# Altium schematic symbol library kmilo17pet-NSC_Switcher.SchLib: 2226 symbols (part 3 of 59)
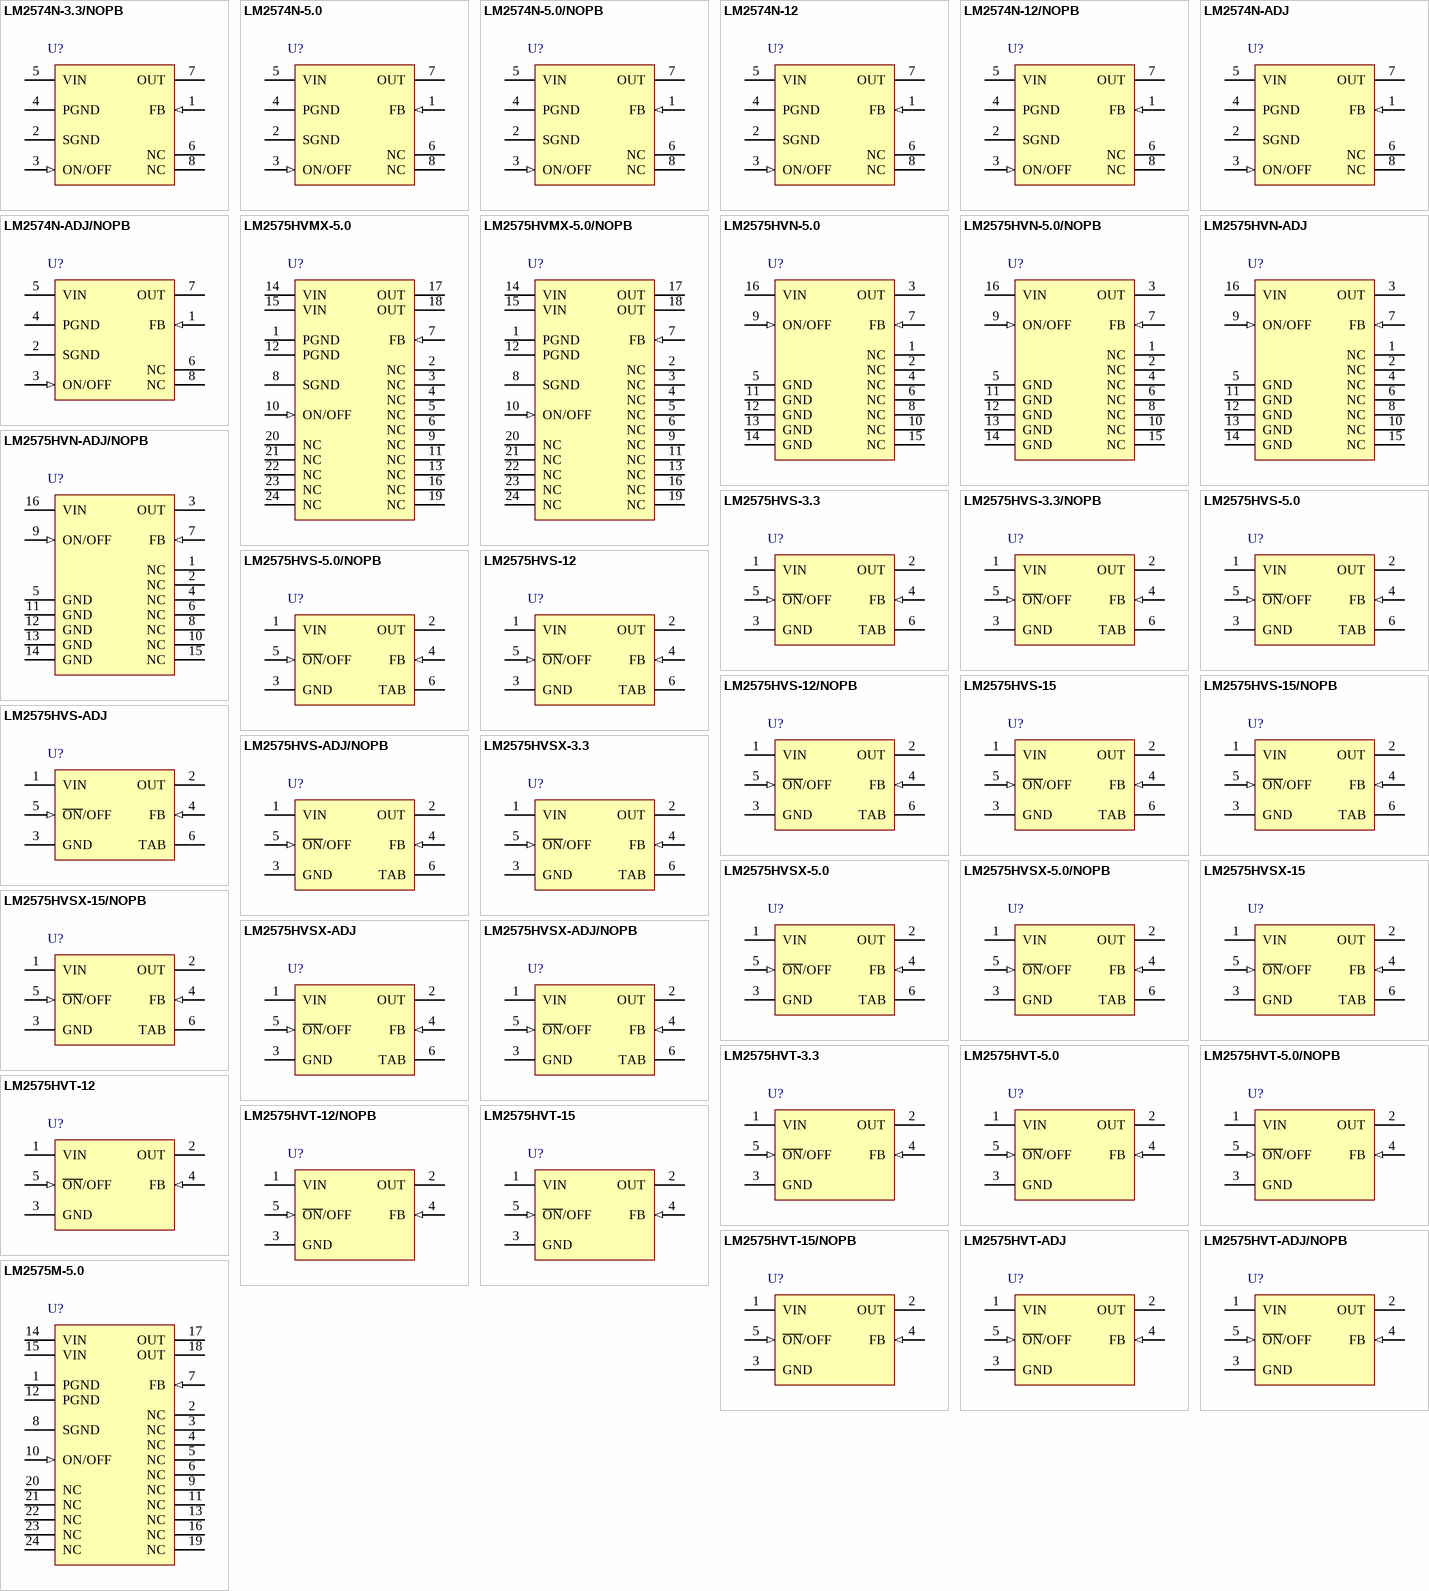
[diagram p71: symbols LM2574N-3.3/NOPB to LM2575M-5.0]

## LM2574N-12
designator U?
SIMPLE SWITCHER® 0.5A Step-Down Voltage Regulator, 8-pin MDIP; PartNumber: LM2574N-12; Manufacturer: National Semiconductor; PackageTopMarking: NSUZXYTTE#*LM2574N*-12 P+; PowerWise: N; High-Reliability: Y; DatasheetVersion: Jun-1999; PackageVersion: revG, May-2006; PackageReference: N08E; PackageDescription: MDIP, .365 x .250 x .130in, 8 Lead, .100in Pitch; RoHS: N; PinCount: 8; CompType: Switcher; Code_JEDEC: MS-001-BA; ComponentLink1Description: Manufacturer URL; ComponentLink1URL: http://www.national.com/; ComponentLink2Description: LM2574 Datasheet; ComponentLink2URL: http://www.national.com/ds/LM/LM2574.pdf; ComponentLink3Description: LM2574 Web Page; ComponentLink3URL: http://www.national.com/pf/LM/LM2574.html; ComponentLink4Description: N08E Package Page; ComponentLink4URL: http://www.national.com/packaging/folders/n08e.html
footprint N08E (DIP, 8-Leads, Row Spacing 7.62mm, Pitch 2.54mm, Body 9.91x6.35mm)
pins: 1 FB (in), 2 SGND (power), 3 ON/OFF (in), 4 PGND (power), 5 VIN (power), 6 NC, 7 OUT (power), 8 NC

## LM2574N-12/NOPB
designator U?
SIMPLE SWITCHER® 0.5A Step-Down Voltage Regulator, 8-pin MDIP, Pb-Free; PartNumber: LM2574N-12/NOPB; Manufacturer: National Semiconductor; PackageTopMarking: NSUZXYTTE#*LM2574N*-12 P+; PowerWise: N; High-Reliability: Y; DatasheetVersion: Jun-1999; PackageVersion: revG, May-2006; PackageReference: N08E; PackageDescription: MDIP, .365 x .250 x .130in, 8 Lead, .100in Pitch; RoHS: Y; PinCount: 8; CompType: Switcher; Code_JEDEC: MS-001-BA; ComponentLink1Description: Manufacturer URL; ComponentLink1URL: http://www.national.com/; ComponentLink2Description: LM2574 Datasheet; ComponentLink2URL: http://www.national.com/ds/LM/LM2574.pdf; ComponentLink3Description: LM2574 Web Page; ComponentLink3URL: http://www.national.com/pf/LM/LM2574.html; ComponentLink4Description: N08E Package Page; ComponentLink4URL: http://www.national.com/packaging/folders/n08e.html
footprint N08E (DIP, 8-Leads, Row Spacing 7.62mm, Pitch 2.54mm, Body 9.91x6.35mm)
pins: 1 FB (in), 2 SGND (power), 3 ON/OFF (in), 4 PGND (power), 5 VIN (power), 6 NC, 7 OUT (power), 8 NC

## LM2574N-ADJ
designator U?
SIMPLE SWITCHER® 0.5A Step-Down Voltage Regulator, 8-pin MDIP; PartNumber: LM2574N-ADJ; Manufacturer: National Semiconductor; PackageTopMarking: NSUZXYTTE#*LM2574N*-ADJ P+; PowerWise: N; High-Reliability: Y; DatasheetVersion: Jun-1999; PackageVersion: revG, May-2006; PackageReference: N08E; PackageDescription: MDIP, .365 x .250 x .130in, 8 Lead, .100in Pitch; RoHS: N; PinCount: 8; CompType: Switcher; Code_JEDEC: MS-001-BA; ComponentLink1Description: Manufacturer URL; ComponentLink1URL: http://www.national.com/; ComponentLink2Description: LM2574 Datasheet; ComponentLink2URL: http://www.national.com/ds/LM/LM2574.pdf; ComponentLink3Description: LM2574 Web Page; ComponentLink3URL: http://www.national.com/pf/LM/LM2574.html; ComponentLink4Description: N08E Package Page; ComponentLink4URL: http://www.national.com/packaging/folders/n08e.html
footprint N08E (DIP, 8-Leads, Row Spacing 7.62mm, Pitch 2.54mm, Body 9.91x6.35mm)
pins: 1 FB (in), 2 SGND (power), 3 ON/OFF (in), 4 PGND (power), 5 VIN (power), 6 NC, 7 OUT (power), 8 NC

## LM2574N-ADJ/NOPB
designator U?
SIMPLE SWITCHER® 0.5A Step-Down Voltage Regulator, 8-pin MDIP, Pb-Free; PartNumber: LM2574N-ADJ/NOPB; Manufacturer: National Semiconductor; PackageTopMarking: NSUZXYTTE#*LM2574N*-ADJ P+; PowerWise: N; High-Reliability: Y; DatasheetVersion: Jun-1999; PackageVersion: revG, May-2006; PackageReference: N08E; PackageDescription: MDIP, .365 x .250 x .130in, 8 Lead, .100in Pitch; RoHS: Y; PinCount: 8; CompType: Switcher; Code_JEDEC: MS-001-BA; ComponentLink1Description: Manufacturer URL; ComponentLink1URL: http://www.national.com/; ComponentLink2Description: LM2574 Datasheet; ComponentLink2URL: http://www.national.com/ds/LM/LM2574.pdf; ComponentLink3Description: LM2574 Web Page; ComponentLink3URL: http://www.national.com/pf/LM/LM2574.html; ComponentLink4Description: N08E Package Page; ComponentLink4URL: http://www.national.com/packaging/folders/n08e.html
footprint N08E (DIP, 8-Leads, Row Spacing 7.62mm, Pitch 2.54mm, Body 9.91x6.35mm)
pins: 1 FB (in), 2 SGND (power), 3 ON/OFF (in), 4 PGND (power), 5 VIN (power), 6 NC, 7 OUT (power), 8 NC

## LM2575HVMX-5.0
designator U?
SIMPLE SWITCHER® 1A Step-Down Voltage Regulator, 24-pin Wide SOIC; PartNumber: LM2575HVMX-5.0; Manufacturer: National Semiconductor; PackageTopMarking: NSUZXYTTE#*LM2575HVM*-5.0 P+; PowerWise: N; High-Reliability: Y; DatasheetVersion: Apr-2007; PackageVersion: revF, Apr-1990; PackageReference: M24B; PackageDescription: Molded Package, S.O., .300in Wide, 24 Lead; RoHS: N; PinCount: 24; CompType: Switcher; ComponentLink1Description: Manufacturer URL; ComponentLink1URL: http://www.national.com/; ComponentLink2Description: LM2575HV Datasheet; ComponentLink2URL: http://www.national.com/ds/LM/LM2575HV.pdf; ComponentLink3Description: LM2575HV Web Page; ComponentLink3URL: http://www.national.com/pf/LM/LM2575HV.html; ComponentLink4Description: M24B Package Page; ComponentLink4URL: http://www.national.com/packaging/folders/m24b.html
footprint M24B_N (SOIC, 24-Leads, Body 15.4x7.5mm, Pitch 1.27mm, IPC Medium Density)
footprint M24B_L (SOIC, 24-Leads, Body 15.4x7.5mm, Pitch 1.27mm, IPC High Density)
footprint M24B_M (SOIC, 24-Leads, Body 15.4x7.5mm, Pitch 1.27mm, IPC Low Density)
pins: 1 PGND (power), 2 NC, 3 NC, 4 NC, 5 NC, 6 NC, 7 FB (in), 8 SGND (power), 9 NC, 10 ON/OFF (in), 11 NC, 12 PGND (power), 13 NC, 14 VIN (power), 15 VIN (power), 16 NC, 17 OUT (power), 18 OUT (power), 19 NC, 20 NC, 21 NC, 22 NC, 23 NC, 24 NC

## LM2575HVMX-5.0/NOPB
designator U?
SIMPLE SWITCHER® 1A Step-Down Voltage Regulator, 24-pin Wide SOIC, Pb-Free; PartNumber: LM2575HVMX-5.0/NOPB; Manufacturer: National Semiconductor; PackageTopMarking: NSUZXYTTE#*LM2575HVM*-5.0 P+; PowerWise: N; High-Reliability: Y; DatasheetVersion: Apr-2007; PackageVersion: revF, Apr-1990; PackageReference: M24B; PackageDescription: Molded Package, S.O., .300in Wide, 24 Lead; RoHS: Y; PinCount: 24; CompType: Switcher; ComponentLink1Description: Manufacturer URL; ComponentLink1URL: http://www.national.com/; ComponentLink2Description: LM2575HV Datasheet; ComponentLink2URL: http://www.national.com/ds/LM/LM2575HV.pdf; ComponentLink3Description: LM2575HV Web Page; ComponentLink3URL: http://www.national.com/pf/LM/LM2575HV.html; ComponentLink4Description: M24B Package Page; ComponentLink4URL: http://www.national.com/packaging/folders/m24b.html
footprint M24B_N (SOIC, 24-Leads, Body 15.4x7.5mm, Pitch 1.27mm, IPC Medium Density)
footprint M24B_L (SOIC, 24-Leads, Body 15.4x7.5mm, Pitch 1.27mm, IPC High Density)
footprint M24B_M (SOIC, 24-Leads, Body 15.4x7.5mm, Pitch 1.27mm, IPC Low Density)
pins: 1 PGND (power), 2 NC, 3 NC, 4 NC, 5 NC, 6 NC, 7 FB (in), 8 SGND (power), 9 NC, 10 ON/OFF (in), 11 NC, 12 PGND (power), 13 NC, 14 VIN (power), 15 VIN (power), 16 NC, 17 OUT (power), 18 OUT (power), 19 NC, 20 NC, 21 NC, 22 NC, 23 NC, 24 NC

## LM2575HVN-5.0
designator U?
SIMPLE SWITCHER® 1A Step-Down Voltage Regulator, 16-pin MDIP; PartNumber: LM2575HVN-5.0; Manufacturer: National Semiconductor; PackageTopMarking: NSUZXYYTTE#*LM2575HVN*-5.0 P+; PowerWise: N; High-Reliability: Y; DatasheetVersion: Apr-2007; PackageVersion: revB, Feb-1989; PackageReference: N16G; PackageDescription: Molded Dip (N), 16 Lead, 15 Mil Power Package; RoHS: N; PinCount: 16; CompType: Switcher; ComponentLink1Description: Manufacturer URL; ComponentLink1URL: http://www.national.com/; ComponentLink2Description: LM2575HV Datasheet; ComponentLink2URL: http://www.national.com/ds/LM/LM2575HV.pdf; ComponentLink3Description: LM2575HV Web Page; ComponentLink3URL: http://www.national.com/pf/LM/LM2575HV.html; ComponentLink4Description: N16G Package Page; ComponentLink4URL: http://www.national.com/packaging/folders/n16g.html
footprint N16G (DIP, 16-Leads, Row Spacing 7.62mm, Pitch 2.54mm, Body 21.76x6.35mm)
pins: 1 NC, 2 NC, 3 OUT (power), 4 NC, 5 GND (power), 6 NC, 7 FB (in), 8 NC, 9 ON/OFF (in), 10 NC, 11 GND (power), 12 GND (power), 13 GND (power), 14 GND (power), 15 NC, 16 VIN (power)

## LM2575HVN-5.0/NOPB
designator U?
SIMPLE SWITCHER® 1A Step-Down Voltage Regulator, 16-pin MDIP, Pb-Free; PartNumber: LM2575HVN-5.0/NOPB; Manufacturer: National Semiconductor; PackageTopMarking: NSUZXYYTTE#*LM2575HVN*-5.0 P+; PowerWise: N; High-Reliability: Y; DatasheetVersion: Apr-2007; PackageVersion: revB, Feb-1989; PackageReference: N16G; PackageDescription: Molded Dip (N), 16 Lead, 15 Mil Power Package; RoHS: Y; PinCount: 16; CompType: Switcher; ComponentLink1Description: Manufacturer URL; ComponentLink1URL: http://www.national.com/; ComponentLink2Description: LM2575HV Datasheet; ComponentLink2URL: http://www.national.com/ds/LM/LM2575HV.pdf; ComponentLink3Description: LM2575HV Web Page; ComponentLink3URL: http://www.national.com/pf/LM/LM2575HV.html; ComponentLink4Description: N16G Package Page; ComponentLink4URL: http://www.national.com/packaging/folders/n16g.html
footprint N16G (DIP, 16-Leads, Row Spacing 7.62mm, Pitch 2.54mm, Body 21.76x6.35mm)
pins: 1 NC, 2 NC, 3 OUT (power), 4 NC, 5 GND (power), 6 NC, 7 FB (in), 8 NC, 9 ON/OFF (in), 10 NC, 11 GND (power), 12 GND (power), 13 GND (power), 14 GND (power), 15 NC, 16 VIN (power)

## LM2575HVN-ADJ
designator U?
SIMPLE SWITCHER® 1A Step-Down Voltage Regulator, 16-pin MDIP; PartNumber: LM2575HVN-ADJ; Manufacturer: National Semiconductor; PackageTopMarking: NSUZXYYTTE#*LM2575HVN*-ADJ P+; PowerWise: N; High-Reliability: Y; DatasheetVersion: Apr-2007; PackageVersion: revB, Feb-1989; PackageReference: N16G; PackageDescription: Molded Dip (N), 16 Lead, 15 Mil Power Package; RoHS: N; PinCount: 16; CompType: Switcher; ComponentLink1Description: Manufacturer URL; ComponentLink1URL: http://www.national.com/; ComponentLink2Description: LM2575HV Datasheet; ComponentLink2URL: http://www.national.com/ds/LM/LM2575HV.pdf; ComponentLink3Description: LM2575HV Web Page; ComponentLink3URL: http://www.national.com/pf/LM/LM2575HV.html; ComponentLink4Description: N16G Package Page; ComponentLink4URL: http://www.national.com/packaging/folders/n16g.html
footprint N16G (DIP, 16-Leads, Row Spacing 7.62mm, Pitch 2.54mm, Body 21.76x6.35mm)
pins: 1 NC, 2 NC, 3 OUT (power), 4 NC, 5 GND (power), 6 NC, 7 FB (in), 8 NC, 9 ON/OFF (in), 10 NC, 11 GND (power), 12 GND (power), 13 GND (power), 14 GND (power), 15 NC, 16 VIN (power)

## LM2575HVN-ADJ/NOPB
designator U?
SIMPLE SWITCHER® 1A Step-Down Voltage Regulator, 16-pin MDIP, Pb-Free; PartNumber: LM2575HVN-ADJ/NOPB; Manufacturer: National Semiconductor; PackageTopMarking: NSUZXYYTTE#*LM2575HVN*-ADJ P+; PowerWise: N; High-Reliability: Y; DatasheetVersion: Apr-2007; PackageVersion: revB, Feb-1989; PackageReference: N16G; PackageDescription: Molded Dip (N), 16 Lead, 15 Mil Power Package; RoHS: Y; PinCount: 16; CompType: Switcher; ComponentLink1Description: Manufacturer URL; ComponentLink1URL: http://www.national.com/; ComponentLink2Description: LM2575HV Datasheet; ComponentLink2URL: http://www.national.com/ds/LM/LM2575HV.pdf; ComponentLink3Description: LM2575HV Web Page; ComponentLink3URL: http://www.national.com/pf/LM/LM2575HV.html; ComponentLink4Description: N16G Package Page; ComponentLink4URL: http://www.national.com/packaging/folders/n16g.html
footprint N16G (DIP, 16-Leads, Row Spacing 7.62mm, Pitch 2.54mm, Body 21.76x6.35mm)
pins: 1 NC, 2 NC, 3 OUT (power), 4 NC, 5 GND (power), 6 NC, 7 FB (in), 8 NC, 9 ON/OFF (in), 10 NC, 11 GND (power), 12 GND (power), 13 GND (power), 14 GND (power), 15 NC, 16 VIN (power)

## LM2575HVS-3.3
designator U?
SIMPLE SWITCHER® 1A Step-Down Voltage Regulator, 5-pin TO-263; PartNumber: LM2575HVS-3.3; Manufacturer: National Semiconductor; PackageTopMarking: NSUZXYTTE#*LM2575HVS*-3.3 P+; PowerWise: N; High-Reliability: Y; DatasheetVersion: Apr-2007; PackageVersion: revD, Apr-2005; PackageReference: TS5B; PackageDescription: TO-263, Molded, .400 x .390 x .180in, 5 Lead, .067in Pitch, Surface Mount; RoHS: N; PinCount: 5; CompType: Switcher; Code_JEDEC: MO-169-AB; ComponentLink1Description: Manufacturer URL; ComponentLink1URL: http://www.national.com/; ComponentLink2Description: LM2575HV Datasheet; ComponentLink2URL: http://www.national.com/ds/LM/LM2575HV.pdf; ComponentLink3Description: LM2575HV Web Page; ComponentLink3URL: http://www.national.com/pf/LM/LM2575HV.html; ComponentLink4Description: TS5B Package Page; ComponentLink4URL: http://www.national.com/packaging/folders/ts5b.html
footprint TS5B_N (D2-PAK, 6-Leads, Body 8.6x10.2mm, Pitch 1.7mm, Lead Span 14.1mm, IPC Medium Density)
footprint TS5B_L (D2-PAK, 6-Leads, Body 8.6x10.2mm, Pitch 1.7mm, Lead Span 14.1mm, IPC High Density)
footprint TS5B_M (D2-PAK, 6-Leads, Body 8.6x10.2mm, Pitch 1.7mm, Lead Span 14.1mm, IPC Low Density)
pins: 1 VIN (power), 2 OUT (power), 3 GND (power), 4 FB (in), 5 ~{ON}/OFF (in), 6 TAB (power)

## LM2575HVS-3.3/NOPB
designator U?
SIMPLE SWITCHER® 1A Step-Down Voltage Regulator, 5-pin TO-263, Pb-Free; PartNumber: LM2575HVS-3.3/NOPB; Manufacturer: National Semiconductor; PackageTopMarking: NSUZXYTTE#*LM2575HVS*-3.3 P+; PowerWise: N; High-Reliability: Y; DatasheetVersion: Apr-2007; PackageVersion: revD, Apr-2005; PackageReference: TS5B; PackageDescription: TO-263, Molded, .400 x .390 x .180in, 5 Lead, .067in Pitch, Surface Mount; RoHS: Y; PinCount: 5; CompType: Switcher; Code_JEDEC: MO-169-AB; ComponentLink1Description: Manufacturer URL; ComponentLink1URL: http://www.national.com/; ComponentLink2Description: LM2575HV Datasheet; ComponentLink2URL: http://www.national.com/ds/LM/LM2575HV.pdf; ComponentLink3Description: LM2575HV Web Page; ComponentLink3URL: http://www.national.com/pf/LM/LM2575HV.html; ComponentLink4Description: TS5B Package Page; ComponentLink4URL: http://www.national.com/packaging/folders/ts5b.html
footprint TS5B_N (D2-PAK, 6-Leads, Body 8.6x10.2mm, Pitch 1.7mm, Lead Span 14.1mm, IPC Medium Density)
footprint TS5B_L (D2-PAK, 6-Leads, Body 8.6x10.2mm, Pitch 1.7mm, Lead Span 14.1mm, IPC High Density)
footprint TS5B_M (D2-PAK, 6-Leads, Body 8.6x10.2mm, Pitch 1.7mm, Lead Span 14.1mm, IPC Low Density)
pins: 1 VIN (power), 2 OUT (power), 3 GND (power), 4 FB (in), 5 ~{ON}/OFF (in), 6 TAB (power)

## LM2575HVS-5.0
designator U?
SIMPLE SWITCHER® 1A Step-Down Voltage Regulator, 5-pin TO-263; PartNumber: LM2575HVS-5.0; Manufacturer: National Semiconductor; PackageTopMarking: NSUZXYTTE#*LM2575HVS*-5.0 P+; PowerWise: N; High-Reliability: Y; DatasheetVersion: Apr-2007; PackageVersion: revD, Apr-2005; PackageReference: TS5B; PackageDescription: TO-263, Molded, .400 x .390 x .180in, 5 Lead, .067in Pitch, Surface Mount; RoHS: N; PinCount: 5; CompType: Switcher; Code_JEDEC: MO-169-AB; ComponentLink1Description: Manufacturer URL; ComponentLink1URL: http://www.national.com/; ComponentLink2Description: LM2575HV Datasheet; ComponentLink2URL: http://www.national.com/ds/LM/LM2575HV.pdf; ComponentLink3Description: LM2575HV Web Page; ComponentLink3URL: http://www.national.com/pf/LM/LM2575HV.html; ComponentLink4Description: TS5B Package Page; ComponentLink4URL: http://www.national.com/packaging/folders/ts5b.html
footprint TS5B_N (D2-PAK, 6-Leads, Body 8.6x10.2mm, Pitch 1.7mm, Lead Span 14.1mm, IPC Medium Density)
footprint TS5B_L (D2-PAK, 6-Leads, Body 8.6x10.2mm, Pitch 1.7mm, Lead Span 14.1mm, IPC High Density)
footprint TS5B_M (D2-PAK, 6-Leads, Body 8.6x10.2mm, Pitch 1.7mm, Lead Span 14.1mm, IPC Low Density)
pins: 1 VIN (power), 2 OUT (power), 3 GND (power), 4 FB (in), 5 ~{ON}/OFF (in), 6 TAB (power)

## LM2575HVS-5.0/NOPB
designator U?
SIMPLE SWITCHER® 1A Step-Down Voltage Regulator, 5-pin TO-263, Pb-Free; PartNumber: LM2575HVS-5.0/NOPB; Manufacturer: National Semiconductor; PackageTopMarking: NSUZXYTTE#*LM2575HVS*-5.0 P+; PowerWise: N; High-Reliability: Y; DatasheetVersion: Apr-2007; PackageVersion: revD, Apr-2005; PackageReference: TS5B; PackageDescription: TO-263, Molded, .400 x .390 x .180in, 5 Lead, .067in Pitch, Surface Mount; RoHS: Y; PinCount: 5; CompType: Switcher; Code_JEDEC: MO-169-AB; ComponentLink1Description: Manufacturer URL; ComponentLink1URL: http://www.national.com/; ComponentLink2Description: LM2575HV Datasheet; ComponentLink2URL: http://www.national.com/ds/LM/LM2575HV.pdf; ComponentLink3Description: LM2575HV Web Page; ComponentLink3URL: http://www.national.com/pf/LM/LM2575HV.html; ComponentLink4Description: TS5B Package Page; ComponentLink4URL: http://www.national.com/packaging/folders/ts5b.html
footprint TS5B_N (D2-PAK, 6-Leads, Body 8.6x10.2mm, Pitch 1.7mm, Lead Span 14.1mm, IPC Medium Density)
footprint TS5B_L (D2-PAK, 6-Leads, Body 8.6x10.2mm, Pitch 1.7mm, Lead Span 14.1mm, IPC High Density)
footprint TS5B_M (D2-PAK, 6-Leads, Body 8.6x10.2mm, Pitch 1.7mm, Lead Span 14.1mm, IPC Low Density)
pins: 1 VIN (power), 2 OUT (power), 3 GND (power), 4 FB (in), 5 ~{ON}/OFF (in), 6 TAB (power)

## LM2575HVS-12
designator U?
SIMPLE SWITCHER® 1A Step-Down Voltage Regulator, 5-pin TO-263; PartNumber: LM2575HVS-12; Manufacturer: National Semiconductor; PackageTopMarking: NSUZXYTTE#*LM2575HVS*-12 P+; PowerWise: N; High-Reliability: Y; DatasheetVersion: Apr-2007; PackageVersion: revD, Apr-2005; PackageReference: TS5B; PackageDescription: TO-263, Molded, .400 x .390 x .180in, 5 Lead, .067in Pitch, Surface Mount; RoHS: N; PinCount: 5; CompType: Switcher; Code_JEDEC: MO-169-AB; ComponentLink1Description: Manufacturer URL; ComponentLink1URL: http://www.national.com/; ComponentLink2Description: LM2575HV Datasheet; ComponentLink2URL: http://www.national.com/ds/LM/LM2575HV.pdf; ComponentLink3Description: LM2575HV Web Page; ComponentLink3URL: http://www.national.com/pf/LM/LM2575HV.html; ComponentLink4Description: TS5B Package Page; ComponentLink4URL: http://www.national.com/packaging/folders/ts5b.html
footprint TS5B_N (D2-PAK, 6-Leads, Body 8.6x10.2mm, Pitch 1.7mm, Lead Span 14.1mm, IPC Medium Density)
footprint TS5B_L (D2-PAK, 6-Leads, Body 8.6x10.2mm, Pitch 1.7mm, Lead Span 14.1mm, IPC High Density)
footprint TS5B_M (D2-PAK, 6-Leads, Body 8.6x10.2mm, Pitch 1.7mm, Lead Span 14.1mm, IPC Low Density)
pins: 1 VIN (power), 2 OUT (power), 3 GND (power), 4 FB (in), 5 ~{ON}/OFF (in), 6 TAB (power)

## LM2575HVS-12/NOPB
designator U?
SIMPLE SWITCHER® 1A Step-Down Voltage Regulator, 5-pin TO-263, Pb-Free; PartNumber: LM2575HVS-12/NOPB; Manufacturer: National Semiconductor; PackageTopMarking: NSUZXYTTE#*LM2575HVS*-12 P+; PowerWise: N; High-Reliability: Y; DatasheetVersion: Apr-2007; PackageVersion: revD, Apr-2005; PackageReference: TS5B; PackageDescription: TO-263, Molded, .400 x .390 x .180in, 5 Lead, .067in Pitch, Surface Mount; RoHS: Y; PinCount: 5; CompType: Switcher; Code_JEDEC: MO-169-AB; ComponentLink1Description: Manufacturer URL; ComponentLink1URL: http://www.national.com/; ComponentLink2Description: LM2575HV Datasheet; ComponentLink2URL: http://www.national.com/ds/LM/LM2575HV.pdf; ComponentLink3Description: LM2575HV Web Page; ComponentLink3URL: http://www.national.com/pf/LM/LM2575HV.html; ComponentLink4Description: TS5B Package Page; ComponentLink4URL: http://www.national.com/packaging/folders/ts5b.html
footprint TS5B_N (D2-PAK, 6-Leads, Body 8.6x10.2mm, Pitch 1.7mm, Lead Span 14.1mm, IPC Medium Density)
footprint TS5B_L (D2-PAK, 6-Leads, Body 8.6x10.2mm, Pitch 1.7mm, Lead Span 14.1mm, IPC High Density)
footprint TS5B_M (D2-PAK, 6-Leads, Body 8.6x10.2mm, Pitch 1.7mm, Lead Span 14.1mm, IPC Low Density)
pins: 1 VIN (power), 2 OUT (power), 3 GND (power), 4 FB (in), 5 ~{ON}/OFF (in), 6 TAB (power)

## LM2575HVS-15
designator U?
SIMPLE SWITCHER® 1A Step-Down Voltage Regulator, 5-pin TO-263; PartNumber: LM2575HVS-15; Manufacturer: National Semiconductor; PackageTopMarking: NSUZXYTTE#*LM2575HVS*-15 P+; PowerWise: N; High-Reliability: Y; DatasheetVersion: Apr-2007; PackageVersion: revD, Apr-2005; PackageReference: TS5B; PackageDescription: TO-263, Molded, .400 x .390 x .180in, 5 Lead, .067in Pitch, Surface Mount; RoHS: N; PinCount: 5; CompType: Switcher; Code_JEDEC: MO-169-AB; ComponentLink1Description: Manufacturer URL; ComponentLink1URL: http://www.national.com/; ComponentLink2Description: LM2575HV Datasheet; ComponentLink2URL: http://www.national.com/ds/LM/LM2575HV.pdf; ComponentLink3Description: LM2575HV Web Page; ComponentLink3URL: http://www.national.com/pf/LM/LM2575HV.html; ComponentLink4Description: TS5B Package Page; ComponentLink4URL: http://www.national.com/packaging/folders/ts5b.html
footprint TS5B_N (D2-PAK, 6-Leads, Body 8.6x10.2mm, Pitch 1.7mm, Lead Span 14.1mm, IPC Medium Density)
footprint TS5B_L (D2-PAK, 6-Leads, Body 8.6x10.2mm, Pitch 1.7mm, Lead Span 14.1mm, IPC High Density)
footprint TS5B_M (D2-PAK, 6-Leads, Body 8.6x10.2mm, Pitch 1.7mm, Lead Span 14.1mm, IPC Low Density)
pins: 1 VIN (power), 2 OUT (power), 3 GND (power), 4 FB (in), 5 ~{ON}/OFF (in), 6 TAB (power)

## LM2575HVS-15/NOPB
designator U?
SIMPLE SWITCHER® 1A Step-Down Voltage Regulator, 5-pin TO-263, Pb-Free; PartNumber: LM2575HVS-15/NOPB; Manufacturer: National Semiconductor; PackageTopMarking: NSUZXYTTE#*LM2575HVS*-15 P+; PowerWise: N; High-Reliability: Y; DatasheetVersion: Apr-2007; PackageVersion: revD, Apr-2005; PackageReference: TS5B; PackageDescription: TO-263, Molded, .400 x .390 x .180in, 5 Lead, .067in Pitch, Surface Mount; RoHS: Y; PinCount: 5; CompType: Switcher; Code_JEDEC: MO-169-AB; ComponentLink1Description: Manufacturer URL; ComponentLink1URL: http://www.national.com/; ComponentLink2Description: LM2575HV Datasheet; ComponentLink2URL: http://www.national.com/ds/LM/LM2575HV.pdf; ComponentLink3Description: LM2575HV Web Page; ComponentLink3URL: http://www.national.com/pf/LM/LM2575HV.html; ComponentLink4Description: TS5B Package Page; ComponentLink4URL: http://www.national.com/packaging/folders/ts5b.html
footprint TS5B_N (D2-PAK, 6-Leads, Body 8.6x10.2mm, Pitch 1.7mm, Lead Span 14.1mm, IPC Medium Density)
footprint TS5B_L (D2-PAK, 6-Leads, Body 8.6x10.2mm, Pitch 1.7mm, Lead Span 14.1mm, IPC High Density)
footprint TS5B_M (D2-PAK, 6-Leads, Body 8.6x10.2mm, Pitch 1.7mm, Lead Span 14.1mm, IPC Low Density)
pins: 1 VIN (power), 2 OUT (power), 3 GND (power), 4 FB (in), 5 ~{ON}/OFF (in), 6 TAB (power)

## LM2575HVS-ADJ
designator U?
SIMPLE SWITCHER® 1A Step-Down Voltage Regulator, 5-pin TO-263; PartNumber: LM2575HVS-ADJ; Manufacturer: National Semiconductor; PackageTopMarking: NSUZXYTTE#*LM2575HVS*-ADJ P+; PowerWise: N; High-Reliability: Y; DatasheetVersion: Apr-2007; PackageVersion: revD, Apr-2005; PackageReference: TS5B; PackageDescription: TO-263, Molded, .400 x .390 x .180in, 5 Lead, .067in Pitch, Surface Mount; RoHS: N; PinCount: 5; CompType: Switcher; Code_JEDEC: MO-169-AB; ComponentLink1Description: Manufacturer URL; ComponentLink1URL: http://www.national.com/; ComponentLink2Description: LM2575HV Datasheet; ComponentLink2URL: http://www.national.com/ds/LM/LM2575HV.pdf; ComponentLink3Description: LM2575HV Web Page; ComponentLink3URL: http://www.national.com/pf/LM/LM2575HV.html; ComponentLink4Description: TS5B Package Page; ComponentLink4URL: http://www.national.com/packaging/folders/ts5b.html
footprint TS5B_N (D2-PAK, 6-Leads, Body 8.6x10.2mm, Pitch 1.7mm, Lead Span 14.1mm, IPC Medium Density)
footprint TS5B_L (D2-PAK, 6-Leads, Body 8.6x10.2mm, Pitch 1.7mm, Lead Span 14.1mm, IPC High Density)
footprint TS5B_M (D2-PAK, 6-Leads, Body 8.6x10.2mm, Pitch 1.7mm, Lead Span 14.1mm, IPC Low Density)
pins: 1 VIN (power), 2 OUT (power), 3 GND (power), 4 FB (in), 5 ~{ON}/OFF (in), 6 TAB (power)

## LM2575HVS-ADJ/NOPB
designator U?
SIMPLE SWITCHER® 1A Step-Down Voltage Regulator, 5-pin TO-263, Pb-Free; PartNumber: LM2575HVS-ADJ/NOPB; Manufacturer: National Semiconductor; PackageTopMarking: NSUZXYTTE#*LM2575HVS*-ADJ P+; PowerWise: N; High-Reliability: Y; DatasheetVersion: Apr-2007; PackageVersion: revD, Apr-2005; PackageReference: TS5B; PackageDescription: TO-263, Molded, .400 x .390 x .180in, 5 Lead, .067in Pitch, Surface Mount; RoHS: Y; PinCount: 5; CompType: Switcher; Code_JEDEC: MO-169-AB; ComponentLink1Description: Manufacturer URL; ComponentLink1URL: http://www.national.com/; ComponentLink2Description: LM2575HV Datasheet; ComponentLink2URL: http://www.national.com/ds/LM/LM2575HV.pdf; ComponentLink3Description: LM2575HV Web Page; ComponentLink3URL: http://www.national.com/pf/LM/LM2575HV.html; ComponentLink4Description: TS5B Package Page; ComponentLink4URL: http://www.national.com/packaging/folders/ts5b.html
footprint TS5B_N (D2-PAK, 6-Leads, Body 8.6x10.2mm, Pitch 1.7mm, Lead Span 14.1mm, IPC Medium Density)
footprint TS5B_L (D2-PAK, 6-Leads, Body 8.6x10.2mm, Pitch 1.7mm, Lead Span 14.1mm, IPC High Density)
footprint TS5B_M (D2-PAK, 6-Leads, Body 8.6x10.2mm, Pitch 1.7mm, Lead Span 14.1mm, IPC Low Density)
pins: 1 VIN (power), 2 OUT (power), 3 GND (power), 4 FB (in), 5 ~{ON}/OFF (in), 6 TAB (power)

## LM2575HVSX-3.3
designator U?
SIMPLE SWITCHER® 1A Step-Down Voltage Regulator, 5-pin TO-263; PartNumber: LM2575HVSX-3.3; Manufacturer: National Semiconductor; PackageTopMarking: NSUZXYTTE#*LM2575HVS*-3.3 P+; PowerWise: N; High-Reliability: Y; DatasheetVersion: Apr-2007; PackageVersion: revD, Apr-2005; PackageReference: TS5B; PackageDescription: TO-263, Molded, .400 x .390 x .180in, 5 Lead, .067in Pitch, Surface Mount; RoHS: N; PinCount: 5; CompType: Switcher; Code_JEDEC: MO-169-AB; ComponentLink1Description: Manufacturer URL; ComponentLink1URL: http://www.national.com/; ComponentLink2Description: LM2575HV Datasheet; ComponentLink2URL: http://www.national.com/ds/LM/LM2575HV.pdf; ComponentLink3Description: LM2575HV Web Page; ComponentLink3URL: http://www.national.com/pf/LM/LM2575HV.html; ComponentLink4Description: TS5B Package Page; ComponentLink4URL: http://www.national.com/packaging/folders/ts5b.html
footprint TS5B_N (D2-PAK, 6-Leads, Body 8.6x10.2mm, Pitch 1.7mm, Lead Span 14.1mm, IPC Medium Density)
footprint TS5B_L (D2-PAK, 6-Leads, Body 8.6x10.2mm, Pitch 1.7mm, Lead Span 14.1mm, IPC High Density)
footprint TS5B_M (D2-PAK, 6-Leads, Body 8.6x10.2mm, Pitch 1.7mm, Lead Span 14.1mm, IPC Low Density)
pins: 1 VIN (power), 2 OUT (power), 3 GND (power), 4 FB (in), 5 ~{ON}/OFF (in), 6 TAB (power)

## LM2575HVSX-5.0
designator U?
SIMPLE SWITCHER® 1A Step-Down Voltage Regulator, 5-pin TO-263; PartNumber: LM2575HVSX-5.0; Manufacturer: National Semiconductor; PackageTopMarking: NSUZXYTTE#*LM2575HVS*-5.0 P+; PowerWise: N; High-Reliability: Y; DatasheetVersion: Apr-2007; PackageVersion: revD, Apr-2005; PackageReference: TS5B; PackageDescription: TO-263, Molded, .400 x .390 x .180in, 5 Lead, .067in Pitch, Surface Mount; RoHS: N; PinCount: 5; CompType: Switcher; Code_JEDEC: MO-169-AB; ComponentLink1Description: Manufacturer URL; ComponentLink1URL: http://www.national.com/; ComponentLink2Description: LM2575HV Datasheet; ComponentLink2URL: http://www.national.com/ds/LM/LM2575HV.pdf; ComponentLink3Description: LM2575HV Web Page; ComponentLink3URL: http://www.national.com/pf/LM/LM2575HV.html; ComponentLink4Description: TS5B Package Page; ComponentLink4URL: http://www.national.com/packaging/folders/ts5b.html
footprint TS5B_N (D2-PAK, 6-Leads, Body 8.6x10.2mm, Pitch 1.7mm, Lead Span 14.1mm, IPC Medium Density)
footprint TS5B_L (D2-PAK, 6-Leads, Body 8.6x10.2mm, Pitch 1.7mm, Lead Span 14.1mm, IPC High Density)
footprint TS5B_M (D2-PAK, 6-Leads, Body 8.6x10.2mm, Pitch 1.7mm, Lead Span 14.1mm, IPC Low Density)
pins: 1 VIN (power), 2 OUT (power), 3 GND (power), 4 FB (in), 5 ~{ON}/OFF (in), 6 TAB (power)

## LM2575HVSX-5.0/NOPB
designator U?
SIMPLE SWITCHER® 1A Step-Down Voltage Regulator, 5-pin TO-263, Pb-Free; PartNumber: LM2575HVSX-5.0/NOPB; Manufacturer: National Semiconductor; PackageTopMarking: NSUZXYTTE#*LM2575HVS*-5.0 P+; PowerWise: N; High-Reliability: Y; DatasheetVersion: Apr-2007; PackageVersion: revD, Apr-2005; PackageReference: TS5B; PackageDescription: TO-263, Molded, .400 x .390 x .180in, 5 Lead, .067in Pitch, Surface Mount; RoHS: Y; PinCount: 5; CompType: Switcher; Code_JEDEC: MO-169-AB; ComponentLink1Description: Manufacturer URL; ComponentLink1URL: http://www.national.com/; ComponentLink2Description: LM2575HV Datasheet; ComponentLink2URL: http://www.national.com/ds/LM/LM2575HV.pdf; ComponentLink3Description: LM2575HV Web Page; ComponentLink3URL: http://www.national.com/pf/LM/LM2575HV.html; ComponentLink4Description: TS5B Package Page; ComponentLink4URL: http://www.national.com/packaging/folders/ts5b.html
footprint TS5B_N (D2-PAK, 6-Leads, Body 8.6x10.2mm, Pitch 1.7mm, Lead Span 14.1mm, IPC Medium Density)
footprint TS5B_L (D2-PAK, 6-Leads, Body 8.6x10.2mm, Pitch 1.7mm, Lead Span 14.1mm, IPC High Density)
footprint TS5B_M (D2-PAK, 6-Leads, Body 8.6x10.2mm, Pitch 1.7mm, Lead Span 14.1mm, IPC Low Density)
pins: 1 VIN (power), 2 OUT (power), 3 GND (power), 4 FB (in), 5 ~{ON}/OFF (in), 6 TAB (power)

## LM2575HVSX-15
designator U?
SIMPLE SWITCHER® 1A Step-Down Voltage Regulator, 5-pin TO-263; PartNumber: LM2575HVSX-15; Manufacturer: National Semiconductor; PackageTopMarking: NSUZXYTTE#*LM2575HVS*-15 P+; PowerWise: N; High-Reliability: Y; DatasheetVersion: Apr-2007; PackageVersion: revD, Apr-2005; PackageReference: TS5B; PackageDescription: TO-263, Molded, .400 x .390 x .180in, 5 Lead, .067in Pitch, Surface Mount; RoHS: N; PinCount: 5; CompType: Switcher; Code_JEDEC: MO-169-AB; ComponentLink1Description: Manufacturer URL; ComponentLink1URL: http://www.national.com/; ComponentLink2Description: LM2575HV Datasheet; ComponentLink2URL: http://www.national.com/ds/LM/LM2575HV.pdf; ComponentLink3Description: LM2575HV Web Page; ComponentLink3URL: http://www.national.com/pf/LM/LM2575HV.html; ComponentLink4Description: TS5B Package Page; ComponentLink4URL: http://www.national.com/packaging/folders/ts5b.html
footprint TS5B_N (D2-PAK, 6-Leads, Body 8.6x10.2mm, Pitch 1.7mm, Lead Span 14.1mm, IPC Medium Density)
footprint TS5B_L (D2-PAK, 6-Leads, Body 8.6x10.2mm, Pitch 1.7mm, Lead Span 14.1mm, IPC High Density)
footprint TS5B_M (D2-PAK, 6-Leads, Body 8.6x10.2mm, Pitch 1.7mm, Lead Span 14.1mm, IPC Low Density)
pins: 1 VIN (power), 2 OUT (power), 3 GND (power), 4 FB (in), 5 ~{ON}/OFF (in), 6 TAB (power)

## LM2575HVSX-15/NOPB
designator U?
SIMPLE SWITCHER® 1A Step-Down Voltage Regulator, 5-pin TO-263, Pb-Free; PartNumber: LM2575HVSX-15/NOPB; Manufacturer: National Semiconductor; PackageTopMarking: NSUZXYTTE#*LM2575HVS*-15 P+; PowerWise: N; High-Reliability: Y; DatasheetVersion: Apr-2007; PackageVersion: revD, Apr-2005; PackageReference: TS5B; PackageDescription: TO-263, Molded, .400 x .390 x .180in, 5 Lead, .067in Pitch, Surface Mount; RoHS: Y; PinCount: 5; CompType: Switcher; Code_JEDEC: MO-169-AB; ComponentLink1Description: Manufacturer URL; ComponentLink1URL: http://www.national.com/; ComponentLink2Description: LM2575HV Datasheet; ComponentLink2URL: http://www.national.com/ds/LM/LM2575HV.pdf; ComponentLink3Description: LM2575HV Web Page; ComponentLink3URL: http://www.national.com/pf/LM/LM2575HV.html; ComponentLink4Description: TS5B Package Page; ComponentLink4URL: http://www.national.com/packaging/folders/ts5b.html
footprint TS5B_N (D2-PAK, 6-Leads, Body 8.6x10.2mm, Pitch 1.7mm, Lead Span 14.1mm, IPC Medium Density)
footprint TS5B_L (D2-PAK, 6-Leads, Body 8.6x10.2mm, Pitch 1.7mm, Lead Span 14.1mm, IPC High Density)
footprint TS5B_M (D2-PAK, 6-Leads, Body 8.6x10.2mm, Pitch 1.7mm, Lead Span 14.1mm, IPC Low Density)
pins: 1 VIN (power), 2 OUT (power), 3 GND (power), 4 FB (in), 5 ~{ON}/OFF (in), 6 TAB (power)

## LM2575HVSX-ADJ
designator U?
SIMPLE SWITCHER® 1A Step-Down Voltage Regulator, 5-pin TO-263; PartNumber: LM2575HVSX-ADJ; Manufacturer: National Semiconductor; PackageTopMarking: NSUZXYTTE#*LM2575HVS*-ADJ P+; PowerWise: N; High-Reliability: Y; DatasheetVersion: Apr-2007; PackageVersion: revD, Apr-2005; PackageReference: TS5B; PackageDescription: TO-263, Molded, .400 x .390 x .180in, 5 Lead, .067in Pitch, Surface Mount; RoHS: N; PinCount: 5; CompType: Switcher; Code_JEDEC: MO-169-AB; ComponentLink1Description: Manufacturer URL; ComponentLink1URL: http://www.national.com/; ComponentLink2Description: LM2575HV Datasheet; ComponentLink2URL: http://www.national.com/ds/LM/LM2575HV.pdf; ComponentLink3Description: LM2575HV Web Page; ComponentLink3URL: http://www.national.com/pf/LM/LM2575HV.html; ComponentLink4Description: TS5B Package Page; ComponentLink4URL: http://www.national.com/packaging/folders/ts5b.html
footprint TS5B_N (D2-PAK, 6-Leads, Body 8.6x10.2mm, Pitch 1.7mm, Lead Span 14.1mm, IPC Medium Density)
footprint TS5B_L (D2-PAK, 6-Leads, Body 8.6x10.2mm, Pitch 1.7mm, Lead Span 14.1mm, IPC High Density)
footprint TS5B_M (D2-PAK, 6-Leads, Body 8.6x10.2mm, Pitch 1.7mm, Lead Span 14.1mm, IPC Low Density)
pins: 1 VIN (power), 2 OUT (power), 3 GND (power), 4 FB (in), 5 ~{ON}/OFF (in), 6 TAB (power)

## LM2575HVSX-ADJ/NOPB
designator U?
SIMPLE SWITCHER® 1A Step-Down Voltage Regulator, 5-pin TO-263, Pb-Free; PartNumber: LM2575HVSX-ADJ/NOPB; Manufacturer: National Semiconductor; PackageTopMarking: NSUZXYTTE#*LM2575HVS*-ADJ P+; PowerWise: N; High-Reliability: Y; DatasheetVersion: Apr-2007; PackageVersion: revD, Apr-2005; PackageReference: TS5B; PackageDescription: TO-263, Molded, .400 x .390 x .180in, 5 Lead, .067in Pitch, Surface Mount; RoHS: Y; PinCount: 5; CompType: Switcher; Code_JEDEC: MO-169-AB; ComponentLink1Description: Manufacturer URL; ComponentLink1URL: http://www.national.com/; ComponentLink2Description: LM2575HV Datasheet; ComponentLink2URL: http://www.national.com/ds/LM/LM2575HV.pdf; ComponentLink3Description: LM2575HV Web Page; ComponentLink3URL: http://www.national.com/pf/LM/LM2575HV.html; ComponentLink4Description: TS5B Package Page; ComponentLink4URL: http://www.national.com/packaging/folders/ts5b.html
footprint TS5B_N (D2-PAK, 6-Leads, Body 8.6x10.2mm, Pitch 1.7mm, Lead Span 14.1mm, IPC Medium Density)
footprint TS5B_L (D2-PAK, 6-Leads, Body 8.6x10.2mm, Pitch 1.7mm, Lead Span 14.1mm, IPC High Density)
footprint TS5B_M (D2-PAK, 6-Leads, Body 8.6x10.2mm, Pitch 1.7mm, Lead Span 14.1mm, IPC Low Density)
pins: 1 VIN (power), 2 OUT (power), 3 GND (power), 4 FB (in), 5 ~{ON}/OFF (in), 6 TAB (power)

## LM2575HVT-3.3
designator U?
SIMPLE SWITCHER® 1A Step-Down Voltage Regulator, 5-pin TO-220; PartNumber: LM2575HVT-3.3; Manufacturer: National Semiconductor; PackageTopMarking: NSUZXYTTE#*LM2575HVT*-3.3 P+; PowerWise: N; High-Reliability: Y; DatasheetVersion: Apr-2007; PackageVersion: revJ, Jan-1992; PackageReference: T05A; PackageDescription: TO-220, Molded, 5 Lead, Straight; RoHS: N; PinCount: 5; CompType: Switcher; Code_JEDEC: TO-220-AB; ComponentLink1Description: Manufacturer URL; ComponentLink1URL: http://www.national.com/; ComponentLink2Description: LM2575HV Datasheet; ComponentLink2URL: http://www.national.com/ds/LM/LM2575HV.pdf; ComponentLink3Description: LM2575HV Web Page; ComponentLink3URL: http://www.national.com/pf/LM/LM2575HV.html; ComponentLink4Description: T05A Package Page; ComponentLink4URL: http://www.national.com/packaging/folders/t05a.html
footprint T05A (TO, Thru-Hole, Vertical, Heatsink Mounted; 5 In-Line Leads; Pitch 1.70 mm)
pins: 1 VIN (power), 2 OUT (power), 3 GND (power), 4 FB (in), 5 ~{ON}/OFF (in)

## LM2575HVT-5.0
designator U?
SIMPLE SWITCHER® 1A Step-Down Voltage Regulator, 5-pin TO-220; PartNumber: LM2575HVT-5.0; Manufacturer: National Semiconductor; PackageTopMarking: NSUZXYTTE#*LM2575HVT*-5.0 P+; PowerWise: N; High-Reliability: Y; DatasheetVersion: Apr-2007; PackageVersion: revJ, Jan-1992; PackageReference: T05A; PackageDescription: TO-220, Molded, 5 Lead, Straight; RoHS: N; PinCount: 5; CompType: Switcher; Code_JEDEC: TO-220-AB; ComponentLink1Description: Manufacturer URL; ComponentLink1URL: http://www.national.com/; ComponentLink2Description: LM2575HV Datasheet; ComponentLink2URL: http://www.national.com/ds/LM/LM2575HV.pdf; ComponentLink3Description: LM2575HV Web Page; ComponentLink3URL: http://www.national.com/pf/LM/LM2575HV.html; ComponentLink4Description: T05A Package Page; ComponentLink4URL: http://www.national.com/packaging/folders/t05a.html
footprint T05A (TO, Thru-Hole, Vertical, Heatsink Mounted; 5 In-Line Leads; Pitch 1.70 mm)
pins: 1 VIN (power), 2 OUT (power), 3 GND (power), 4 FB (in), 5 ~{ON}/OFF (in)

## LM2575HVT-5.0/NOPB
designator U?
SIMPLE SWITCHER® 1A Step-Down Voltage Regulator, 5-pin TO-220, Pb-Free; PartNumber: LM2575HVT-5.0/NOPB; Manufacturer: National Semiconductor; PackageTopMarking: NSUZXYTTE#*LM2575HVT*-5.0 P+; PowerWise: N; High-Reliability: Y; DatasheetVersion: Apr-2007; PackageVersion: revJ, Jan-1992; PackageReference: T05A; PackageDescription: TO-220, Molded, 5 Lead, Straight; RoHS: Y; PinCount: 5; CompType: Switcher; Code_JEDEC: TO-220-AB; ComponentLink1Description: Manufacturer URL; ComponentLink1URL: http://www.national.com/; ComponentLink2Description: LM2575HV Datasheet; ComponentLink2URL: http://www.national.com/ds/LM/LM2575HV.pdf; ComponentLink3Description: LM2575HV Web Page; ComponentLink3URL: http://www.national.com/pf/LM/LM2575HV.html; ComponentLink4Description: T05A Package Page; ComponentLink4URL: http://www.national.com/packaging/folders/t05a.html
footprint T05A (TO, Thru-Hole, Vertical, Heatsink Mounted; 5 In-Line Leads; Pitch 1.70 mm)
pins: 1 VIN (power), 2 OUT (power), 3 GND (power), 4 FB (in), 5 ~{ON}/OFF (in)

## LM2575HVT-12
designator U?
SIMPLE SWITCHER® 1A Step-Down Voltage Regulator, 5-pin TO-220; PartNumber: LM2575HVT-12; Manufacturer: National Semiconductor; PackageTopMarking: NSUZXYTTE#*LM2575HVT*-12 P+; PowerWise: N; High-Reliability: Y; DatasheetVersion: Apr-2007; PackageVersion: revJ, Jan-1992; PackageReference: T05A; PackageDescription: TO-220, Molded, 5 Lead, Straight; RoHS: N; PinCount: 5; CompType: Switcher; Code_JEDEC: TO-220-AB; ComponentLink1Description: Manufacturer URL; ComponentLink1URL: http://www.national.com/; ComponentLink2Description: LM2575HV Datasheet; ComponentLink2URL: http://www.national.com/ds/LM/LM2575HV.pdf; ComponentLink3Description: LM2575HV Web Page; ComponentLink3URL: http://www.national.com/pf/LM/LM2575HV.html; ComponentLink4Description: T05A Package Page; ComponentLink4URL: http://www.national.com/packaging/folders/t05a.html
footprint T05A (TO, Thru-Hole, Vertical, Heatsink Mounted; 5 In-Line Leads; Pitch 1.70 mm)
pins: 1 VIN (power), 2 OUT (power), 3 GND (power), 4 FB (in), 5 ~{ON}/OFF (in)

## LM2575HVT-12/NOPB
designator U?
SIMPLE SWITCHER® 1A Step-Down Voltage Regulator, 5-pin TO-220, Pb-Free; PartNumber: LM2575HVT-12/NOPB; Manufacturer: National Semiconductor; PackageTopMarking: NSUZXYTTE#*LM2575HVT*-12 P+; PowerWise: N; High-Reliability: Y; DatasheetVersion: Apr-2007; PackageVersion: revJ, Jan-1992; PackageReference: T05A; PackageDescription: TO-220, Molded, 5 Lead, Straight; RoHS: Y; PinCount: 5; CompType: Switcher; Code_JEDEC: TO-220-AB; ComponentLink1Description: Manufacturer URL; ComponentLink1URL: http://www.national.com/; ComponentLink2Description: LM2575HV Datasheet; ComponentLink2URL: http://www.national.com/ds/LM/LM2575HV.pdf; ComponentLink3Description: LM2575HV Web Page; ComponentLink3URL: http://www.national.com/pf/LM/LM2575HV.html; ComponentLink4Description: T05A Package Page; ComponentLink4URL: http://www.national.com/packaging/folders/t05a.html
footprint T05A (TO, Thru-Hole, Vertical, Heatsink Mounted; 5 In-Line Leads; Pitch 1.70 mm)
pins: 1 VIN (power), 2 OUT (power), 3 GND (power), 4 FB (in), 5 ~{ON}/OFF (in)

## LM2575HVT-15
designator U?
SIMPLE SWITCHER® 1A Step-Down Voltage Regulator, 5-pin TO-220; PartNumber: LM2575HVT-15; Manufacturer: National Semiconductor; PackageTopMarking: NSUZXYTTE#*LM2575HVT*-15 P+; PowerWise: N; High-Reliability: Y; DatasheetVersion: Apr-2007; PackageVersion: revJ, Jan-1992; PackageReference: T05A; PackageDescription: TO-220, Molded, 5 Lead, Straight; RoHS: N; PinCount: 5; CompType: Switcher; Code_JEDEC: TO-220-AB; ComponentLink1Description: Manufacturer URL; ComponentLink1URL: http://www.national.com/; ComponentLink2Description: LM2575HV Datasheet; ComponentLink2URL: http://www.national.com/ds/LM/LM2575HV.pdf; ComponentLink3Description: LM2575HV Web Page; ComponentLink3URL: http://www.national.com/pf/LM/LM2575HV.html; ComponentLink4Description: T05A Package Page; ComponentLink4URL: http://www.national.com/packaging/folders/t05a.html
footprint T05A (TO, Thru-Hole, Vertical, Heatsink Mounted; 5 In-Line Leads; Pitch 1.70 mm)
pins: 1 VIN (power), 2 OUT (power), 3 GND (power), 4 FB (in), 5 ~{ON}/OFF (in)

## LM2575HVT-15/NOPB
designator U?
SIMPLE SWITCHER® 1A Step-Down Voltage Regulator, 5-pin TO-220, Pb-Free; PartNumber: LM2575HVT-15/NOPB; Manufacturer: National Semiconductor; PackageTopMarking: NSUZXYTTE#*LM2575HVT*-15 P+; PowerWise: N; High-Reliability: Y; DatasheetVersion: Apr-2007; PackageVersion: revJ, Jan-1992; PackageReference: T05A; PackageDescription: TO-220, Molded, 5 Lead, Straight; RoHS: Y; PinCount: 5; CompType: Switcher; Code_JEDEC: TO-220-AB; ComponentLink1Description: Manufacturer URL; ComponentLink1URL: http://www.national.com/; ComponentLink2Description: LM2575HV Datasheet; ComponentLink2URL: http://www.national.com/ds/LM/LM2575HV.pdf; ComponentLink3Description: LM2575HV Web Page; ComponentLink3URL: http://www.national.com/pf/LM/LM2575HV.html; ComponentLink4Description: T05A Package Page; ComponentLink4URL: http://www.national.com/packaging/folders/t05a.html
footprint T05A (TO, Thru-Hole, Vertical, Heatsink Mounted; 5 In-Line Leads; Pitch 1.70 mm)
pins: 1 VIN (power), 2 OUT (power), 3 GND (power), 4 FB (in), 5 ~{ON}/OFF (in)

## LM2575HVT-ADJ
designator U?
SIMPLE SWITCHER® 1A Step-Down Voltage Regulator, 5-pin TO-220; PartNumber: LM2575HVT-ADJ; Manufacturer: National Semiconductor; PackageTopMarking: NSUZXYTTE#*LM2575HVT*-ADJ P+; PowerWise: N; High-Reliability: Y; DatasheetVersion: Apr-2007; PackageVersion: revJ, Jan-1992; PackageReference: T05A; PackageDescription: TO-220, Molded, 5 Lead, Straight; RoHS: N; PinCount: 5; CompType: Switcher; Code_JEDEC: TO-220-AB; ComponentLink1Description: Manufacturer URL; ComponentLink1URL: http://www.national.com/; ComponentLink2Description: LM2575HV Datasheet; ComponentLink2URL: http://www.national.com/ds/LM/LM2575HV.pdf; ComponentLink3Description: LM2575HV Web Page; ComponentLink3URL: http://www.national.com/pf/LM/LM2575HV.html; ComponentLink4Description: T05A Package Page; ComponentLink4URL: http://www.national.com/packaging/folders/t05a.html
footprint T05A (TO, Thru-Hole, Vertical, Heatsink Mounted; 5 In-Line Leads; Pitch 1.70 mm)
pins: 1 VIN (power), 2 OUT (power), 3 GND (power), 4 FB (in), 5 ~{ON}/OFF (in)

## LM2575HVT-ADJ/NOPB
designator U?
SIMPLE SWITCHER® 1A Step-Down Voltage Regulator, 5-pin TO-220, Pb-Free; PartNumber: LM2575HVT-ADJ/NOPB; Manufacturer: National Semiconductor; PackageTopMarking: NSUZXYTTE#*LM2575HVT*-ADJ P+; PowerWise: N; High-Reliability: Y; DatasheetVersion: Apr-2007; PackageVersion: revJ, Jan-1992; PackageReference: T05A; PackageDescription: TO-220, Molded, 5 Lead, Straight; RoHS: Y; PinCount: 5; CompType: Switcher; Code_JEDEC: TO-220-AB; ComponentLink1Description: Manufacturer URL; ComponentLink1URL: http://www.national.com/; ComponentLink2Description: LM2575HV Datasheet; ComponentLink2URL: http://www.national.com/ds/LM/LM2575HV.pdf; ComponentLink3Description: LM2575HV Web Page; ComponentLink3URL: http://www.national.com/pf/LM/LM2575HV.html; ComponentLink4Description: T05A Package Page; ComponentLink4URL: http://www.national.com/packaging/folders/t05a.html
footprint T05A (TO, Thru-Hole, Vertical, Heatsink Mounted; 5 In-Line Leads; Pitch 1.70 mm)
pins: 1 VIN (power), 2 OUT (power), 3 GND (power), 4 FB (in), 5 ~{ON}/OFF (in)

## LM2575M-5.0
designator U?
SIMPLE SWITCHER® 1A Step-Down Voltage Regulator, 24-pin Wide SOIC; PartNumber: LM2575M-5.0; Manufacturer: National Semiconductor; PackageTopMarking: NSUZXYTTE#*LM2575M*-5.0 P+; PowerWise: N; High-Reliability: Y; DatasheetVersion: Apr-2007; PackageVersion: revF, Apr-1990; PackageReference: M24B; PackageDescription: Molded Package, S.O., .300in Wide, 24 Lead; RoHS: N; PinCount: 24; CompType: Switcher; ComponentLink1Description: Manufacturer URL; ComponentLink1URL: http://www.national.com/; ComponentLink2Description: LM2575 Datasheet; ComponentLink2URL: http://www.national.com/ds/LM/LM2575.pdf; ComponentLink3Description: LM2575 Web Page; ComponentLink3URL: http://www.national.com/pf/LM/LM2575.html; ComponentLink4Description: M24B Package Page; ComponentLink4URL: http://www.national.com/packaging/folders/m24b.html
footprint M24B_N (SOIC, 24-Leads, Body 15.4x7.5mm, Pitch 1.27mm, IPC Medium Density)
footprint M24B_L (SOIC, 24-Leads, Body 15.4x7.5mm, Pitch 1.27mm, IPC High Density)
footprint M24B_M (SOIC, 24-Leads, Body 15.4x7.5mm, Pitch 1.27mm, IPC Low Density)
pins: 1 PGND (power), 2 NC, 3 NC, 4 NC, 5 NC, 6 NC, 7 FB (in), 8 SGND (power), 9 NC, 10 ON/OFF (in), 11 NC, 12 PGND (power), 13 NC, 14 VIN (power), 15 VIN (power), 16 NC, 17 OUT (power), 18 OUT (power), 19 NC, 20 NC, 21 NC, 22 NC, 23 NC, 24 NC

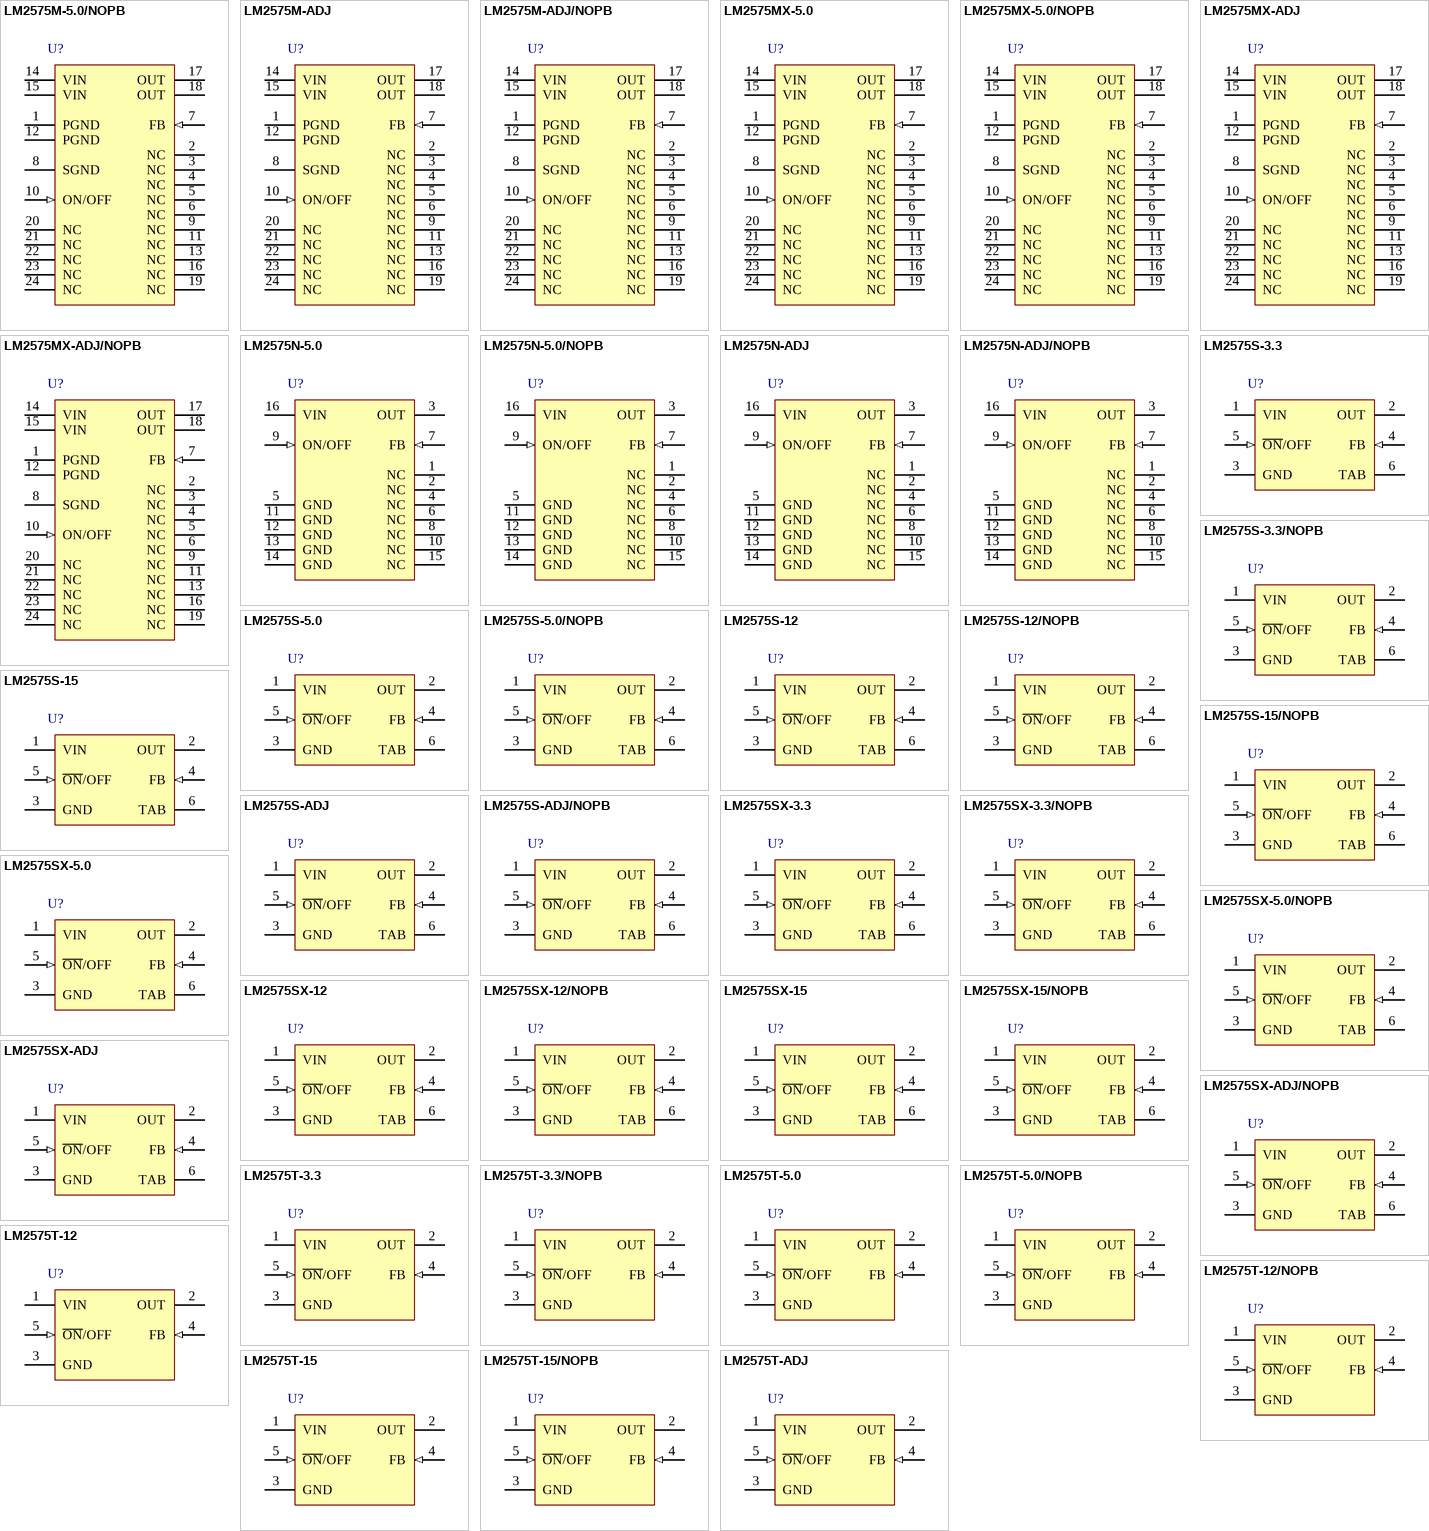
[diagram p3: symbols LM2575M-5.0/NOPB to LM2575T-ADJ]

## LM2575M-5.0/NOPB
designator U?
SIMPLE SWITCHER® 1A Step-Down Voltage Regulator, 24-pin Wide SOIC, Pb-Free; PartNumber: LM2575M-5.0/NOPB; Manufacturer: National Semiconductor; PackageTopMarking: NSUZXYTTE#*LM2575M*-5.0 P+; PowerWise: N; High-Reliability: Y; DatasheetVersion: Apr-2007; PackageVersion: revF, Apr-1990; PackageReference: M24B; PackageDescription: Molded Package, S.O., .300in Wide, 24 Lead; RoHS: Y; PinCount: 24; CompType: Switcher; ComponentLink1Description: Manufacturer URL; ComponentLink1URL: http://www.national.com/; ComponentLink2Description: LM2575 Datasheet; ComponentLink2URL: http://www.national.com/ds/LM/LM2575.pdf; ComponentLink3Description: LM2575 Web Page; ComponentLink3URL: http://www.national.com/pf/LM/LM2575.html; ComponentLink4Description: M24B Package Page; ComponentLink4URL: http://www.national.com/packaging/folders/m24b.html
footprint M24B_N (SOIC, 24-Leads, Body 15.4x7.5mm, Pitch 1.27mm, IPC Medium Density)
footprint M24B_L (SOIC, 24-Leads, Body 15.4x7.5mm, Pitch 1.27mm, IPC High Density)
footprint M24B_M (SOIC, 24-Leads, Body 15.4x7.5mm, Pitch 1.27mm, IPC Low Density)
pins: 1 PGND (power), 2 NC, 3 NC, 4 NC, 5 NC, 6 NC, 7 FB (in), 8 SGND (power), 9 NC, 10 ON/OFF (in), 11 NC, 12 PGND (power), 13 NC, 14 VIN (power), 15 VIN (power), 16 NC, 17 OUT (power), 18 OUT (power), 19 NC, 20 NC, 21 NC, 22 NC, 23 NC, 24 NC

## LM2575M-ADJ
designator U?
SIMPLE SWITCHER® 1A Step-Down Voltage Regulator, 24-pin Wide SOIC; PartNumber: LM2575M-ADJ; Manufacturer: National Semiconductor; PackageTopMarking: NSUZXYTTE#*LM2575M*-ADJ P+; PowerWise: N; High-Reliability: Y; DatasheetVersion: Apr-2007; PackageVersion: revF, Apr-1990; PackageReference: M24B; PackageDescription: Molded Package, S.O., .300in Wide, 24 Lead; RoHS: N; PinCount: 24; CompType: Switcher; ComponentLink1Description: Manufacturer URL; ComponentLink1URL: http://www.national.com/; ComponentLink2Description: LM2575 Datasheet; ComponentLink2URL: http://www.national.com/ds/LM/LM2575.pdf; ComponentLink3Description: LM2575 Web Page; ComponentLink3URL: http://www.national.com/pf/LM/LM2575.html; ComponentLink4Description: M24B Package Page; ComponentLink4URL: http://www.national.com/packaging/folders/m24b.html
footprint M24B_N (SOIC, 24-Leads, Body 15.4x7.5mm, Pitch 1.27mm, IPC Medium Density)
footprint M24B_L (SOIC, 24-Leads, Body 15.4x7.5mm, Pitch 1.27mm, IPC High Density)
footprint M24B_M (SOIC, 24-Leads, Body 15.4x7.5mm, Pitch 1.27mm, IPC Low Density)
pins: 1 PGND (power), 2 NC, 3 NC, 4 NC, 5 NC, 6 NC, 7 FB (in), 8 SGND (power), 9 NC, 10 ON/OFF (in), 11 NC, 12 PGND (power), 13 NC, 14 VIN (power), 15 VIN (power), 16 NC, 17 OUT (power), 18 OUT (power), 19 NC, 20 NC, 21 NC, 22 NC, 23 NC, 24 NC

## LM2575M-ADJ/NOPB
designator U?
SIMPLE SWITCHER® 1A Step-Down Voltage Regulator, 24-pin Wide SOIC, Pb-Free; PartNumber: LM2575M-ADJ/NOPB; Manufacturer: National Semiconductor; PackageTopMarking: NSUZXYTTE#*LM2575M*-ADJ P+; PowerWise: N; High-Reliability: Y; DatasheetVersion: Apr-2007; PackageVersion: revF, Apr-1990; PackageReference: M24B; PackageDescription: Molded Package, S.O., .300in Wide, 24 Lead; RoHS: Y; PinCount: 24; CompType: Switcher; ComponentLink1Description: Manufacturer URL; ComponentLink1URL: http://www.national.com/; ComponentLink2Description: LM2575 Datasheet; ComponentLink2URL: http://www.national.com/ds/LM/LM2575.pdf; ComponentLink3Description: LM2575 Web Page; ComponentLink3URL: http://www.national.com/pf/LM/LM2575.html; ComponentLink4Description: M24B Package Page; ComponentLink4URL: http://www.national.com/packaging/folders/m24b.html
footprint M24B_N (SOIC, 24-Leads, Body 15.4x7.5mm, Pitch 1.27mm, IPC Medium Density)
footprint M24B_L (SOIC, 24-Leads, Body 15.4x7.5mm, Pitch 1.27mm, IPC High Density)
footprint M24B_M (SOIC, 24-Leads, Body 15.4x7.5mm, Pitch 1.27mm, IPC Low Density)
pins: 1 PGND (power), 2 NC, 3 NC, 4 NC, 5 NC, 6 NC, 7 FB (in), 8 SGND (power), 9 NC, 10 ON/OFF (in), 11 NC, 12 PGND (power), 13 NC, 14 VIN (power), 15 VIN (power), 16 NC, 17 OUT (power), 18 OUT (power), 19 NC, 20 NC, 21 NC, 22 NC, 23 NC, 24 NC